# Altium schematic symbol library OMRON_LY2.SchLib: 1 symbol
Pins are listed as number, name and electrical type; pins without a type are passive.

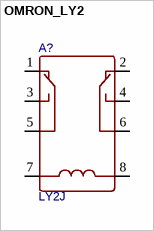
[diagram p0: symbol OMRON_LY2]

## OMRON_LY2
designator A?, comment LY2J
Manufacturer: NF(福特); Manufacturer Part: N40782C12V0.2W; Contributor: lcsc; Supplier: LCSC; Supplier Part: C7473079; spicePre: U; spiceSymbolName: N40782C12V0.2W
footprint RELAY-TH_N40782CXXXXX
pins: 1, 2, 3, 4, 5, 6, 7, 8